# Altium schematic symbol library 705530001.SchLib: 1 symbol
Pins are listed as number, name and electrical type; pins without a type are passive.

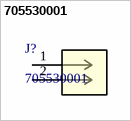
[diagram p0: symbol 705530001]

## 705530001
designator J?
2.54mm Pitch SL Header, Low Profile, Single Row, Right Angle, 3.05mm Pocket, Shrouded, 2 Circuits, 0.38Âµm Gold (Au) Selective Plating, Tin (Sn) PC Tail Plating; Manufacturer_Name: Molex Connector Corporation; Copyright: Copyright (C) 2025 Ultra Librarian. All rights reserved.; Manufacturer_Part_Number: 705530001; RefDes: RefDes; Type: Type
footprint CONN_705530001_02_MOL
pins: 1, 2